# EAGLE library part XM4432-SMT (library xl4432-smt)
XL4432-SMT Si4432 based transceiver Drawn by Will Cooke. Made available under the GPL. For full licence details please see the github page or read any copy of the GPL v2. Datasheet available here:http://www.silabs.com/Support%20Documents/TechnicalDocs/Si4430-31-32.pdf www.whizzy.org https://github.com/8none1 @8none1 <https://twitter.com/8none1>
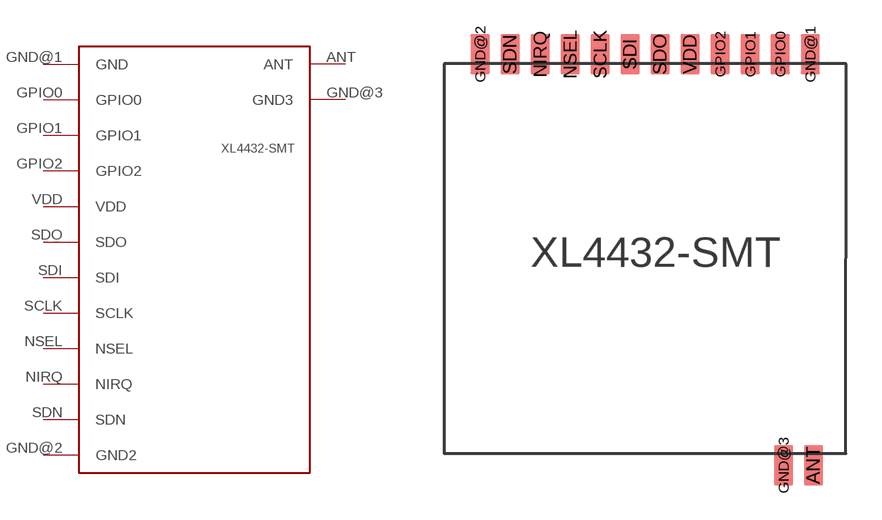
[diagram p0: symbol with the pads of XL4432-SMT; footprint XL4432-SMT]

Designator prefix 4332-

## XM4432-SMT  [XL4432-SMT]
ANT  ANT  in
GND@1  GND  pwr
GND@2  GND2  pwr
GND@3  GND3  pwr
GPIO0  GPIO0
GPIO1  GPIO1
GPIO2  GPIO2
NIRQ  NIRQ
NSEL  NSEL
SCLK  SCLK
SDI  SDI
SDN  SDN
SDO  SDO
VDD  VDD  pwr

## Footprint XL4432-SMT (pad centres in mm)
smd 0.813 x 1.676: ANT 15.63,-0.5; GND@1 15.49,16.9; GND@2 1.52,16.9; GND@3 14.36,-0.5; GPIO0 14.22,16.9; GPIO1 12.95,16.9; GPIO2 11.68,16.9; NIRQ 4.06,16.9; NSEL 5.33,16.9; SCLK 6.6,16.9; SDI 7.87,16.9; SDN 2.79,16.9; SDO 9.14,16.9; VDD 10.41,16.9